# Altium footprint library Diode.PcbLib: 29 footprints (part 2 of 2)
Each footprint in its own frame and in the unit in brackets; x right, y up, seen from the top. Pads: shape width x height; smd on the part's side, far side on the other; paste and mask are expansions set on the pad; w line width, h text height; cw(c..) or ccw(c..) is an arc to the next point about the centre after c.
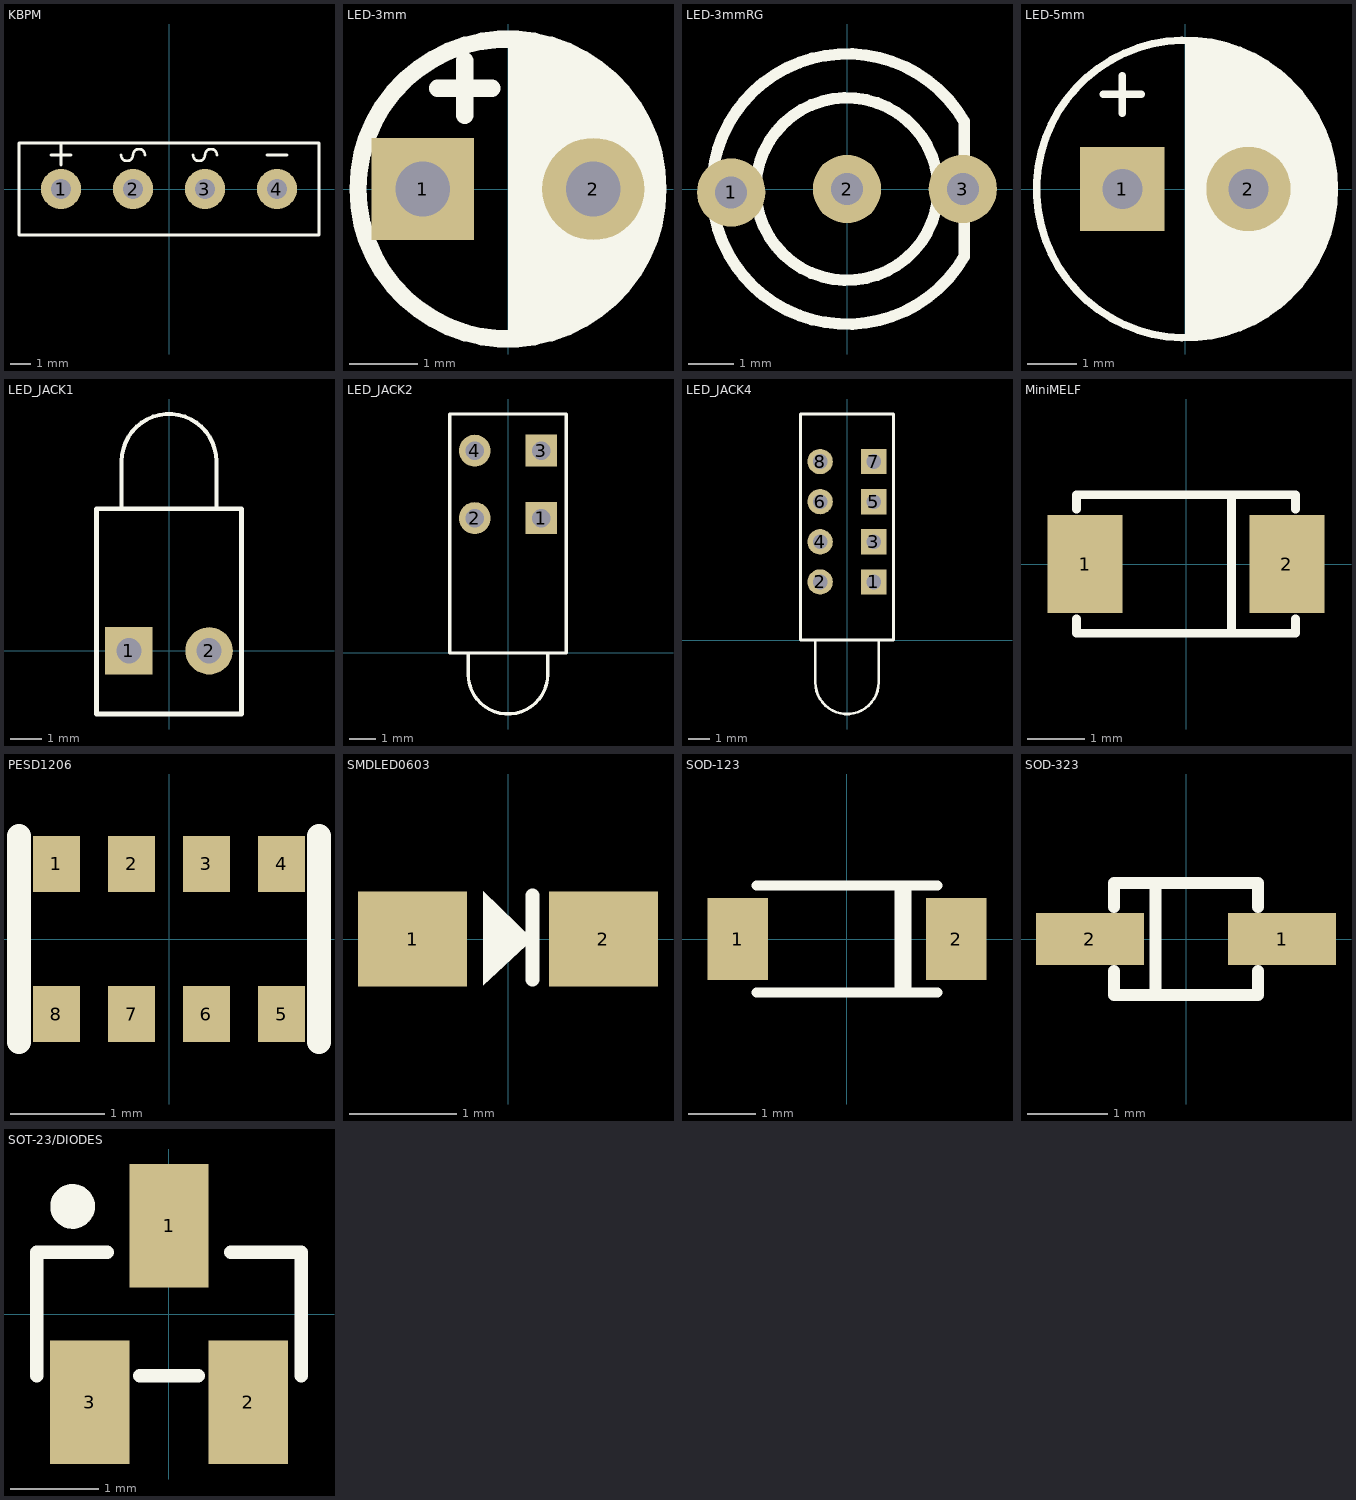
[diagram p1: the footprints below, top view; thin cyan lines are the x and y axes]

## KBPM [mm]
pads (4):
  round 2 hole 1: 1(-5.4,0) 2(-1.8,0) 3(1.8,0) 4(5.4,0)
Top Overlay:
  lines w0.127: -5.9,1.7 -4.9,1.7 ; -5.4,1.2 -5.4,2.2 ; -2.4,1.7 ccw(c-2.1,1.7) -1.8,1.7 cw(c-1.5,1.7) -1.2,1.7 ; 1.2,1.7 ccw(c1.5,1.7) 1.8,1.7 cw(c2.1,1.7) 2.4,1.7 ; 4.9,1.7 5.9,1.7 ; -7.5,-2.3 -7.5,2.3 7.5,2.3 7.5,-2.3 -7.5,-2.3

## LED-3mm [mm] "Dia 3mm"
height 6
pads (2):
  rect 1.5x1.5 hole 0.8: 1(-1.25,0)
  round 1.5 hole 0.8: 2(1.25,0)
Top Overlay:
  circle w0.254: c0,0 r2.2
  region: 0,2.184 0,-2.159 0.66,-2.159 0.838,-2.108 1.067,-2.007 1.702,-1.372 1.727,-1.372 1.753,-1.321 2.134,-0.889 2.2,0 2.108,0.914 1.143,1.88 0.889,2.007 0.66,2.057
  lines w0.254: -1.035,1.48 -0.235,1.48 ; -0.635,1.08 -0.635,1.88

## LED-3mmRG [mm] "double coloure led"
height 5
pads (3):
  round 1.5 hole 0.7: 1(-2.54,-0.076) 2(0,0) 3(2.54,0)
Top Overlay:
  circle w0.254: c0,0 r2
  lines w0.254: 2.568,-1.483 cw(c0,0) 2.568,1.483 2.568,-1.482

## LED-5mm [mm] "Dia 5mm"
height 9
pads (2):
  rect 1.7x1.7 hole 0.8: 1(-1.27,0)
  round 1.7 hole 0.8: 2(1.27,0)
Top Overlay:
  circle w0.152: c0,0 r3
  region: 0,3.023 0,-3.023 0.889,-2.87 1.321,-2.667 1.778,-2.388 2.286,-1.88 2.489,-1.626 2.667,-1.346 2.921,-0.584 3.023,0.406 2.515,1.575 1.956,2.286 1.041,2.794 0.559,2.946
  lines w0.152: -1.651,1.905 -0.889,1.905 ; -1.27,1.524 -1.27,2.286

## LED_JACK1 [mm] "LED JACK"
height 7.5
pads (2):
  rect 1.5x1.5 hole 0.8: 1(-1.27,0)
  round 1.5 hole 0.8: 2(1.27,0)
Top Overlay:
  lines w0.127: -1.5,4.501 -1.5,6 cw(c0,6) 1.5,6 1.5,4.501
  lines w0.152: -2.3,-2 2.3,-2 2.3,4.5 -2.3,4.5 -2.3,-2

## LED_JACK2 [mm] "TWO LEDS VERTICAL"
height 10
pads (4):
  rect 1.2x1.2 hole 0.7: 1(1.25,5.08) 3(1.25,7.62)
  round 1.2 hole 0.7: 2(-1.25,5.08) 4(-1.25,7.62)
Top Overlay:
  lines w0.127: -1.5,-0.052 -1.5,-0.8 ccw(c0,-0.8) 1.5,-0.8 1.5,-0.024 ; -2.2,0 -2.2,9 2.2,9 2.2,0 -2.2,0

## LED_JACK4 [mm] "塑料壳LED4*1"
height 20.3
pads (8):
  rect 1.2x1.2 hole 0.7: 1(1.27,2.75) 3(1.27,4.65) 5(1.27,6.55) 7(1.27,8.45)
  round 1.2 hole 0.7: 2(-1.27,2.75) 4(-1.27,4.65) 6(-1.27,6.55) 8(-1.27,8.45)
Top Overlay:
  lines w0.127: -1.5,0 -1.5,-2 ccw(c0,-2) 1.5,-2 1.5,0 ; -2.2,0 -2.2,10.7 2.2,10.7 2.2,0 -2.2,0

## MiniMELF [mm]
height 1.6
pads (2):
  rect 1.3x1.7 smd: 1(-1.75,0) 2(1.75,0)
Top Overlay:
  lines w0.152: -1.9,-0.95 -1.9,-1.2 1.9,-1.2 1.9,-0.95 ; -1.9,0.95 -1.9,1.2 1.9,1.2 1.9,0.95 ; 0.787,-1.2 0.787,1.2

## PESD1206 [mm]
height 0.6
pads (8):
  rect 0.5x0.6 smd: 1(-1.2,0.8) 2(-0.4,0.8) 3(0.4,0.8) 4(1.2,0.8) 5(1.2,-0.8) 6(0.4,-0.8) 7(-0.4,-0.8) 8(-1.2,-0.8)
Top Overlay:
  lines w0.254: -1.6,-1.1 -1.6,1.1 ; 1.6,-1.1 1.6,1.1

## SMDLED0603 [mil]
pads (2):
  rect 40x35 smd: 1(-35,0) 2(35,0)
Top Overlay:
  region: -9,17.5 -9,-17 9,0
  lines w5: 9,-15 9,16

## SOD-123 [mm] "FOR ONSEMI"
height 1.168
pads (2):
  rect 0.91x1.22 smd: 1(-1.635,0) 2(1.635,0)
Top Overlay:
  lines w0.152: -1.35,-0.8 1.35,-0.8 ; -1.35,0.8 1.35,0.8
  lines w0.254: 0.838,-0.737 0.838,0.737

## SOD-323 [mm] "FOR DIODES"
pads (2):
  rect 1.35x0.65 smd: 1(1.2,0) 2(-1.2,0)
Top Overlay:
  lines w0.152: -0.9,-0.4 -0.9,-0.7 0.9,-0.7 0.9,-0.4 ; -0.9,0.4 -0.9,0.7 0.9,0.7 0.9,0.4 ; -0.381,-0.7 -0.381,0.7

## SOT-23/DIODES [mm] "FOR DIODES"
pads (3):
  rect 0.9x1.4 smd: 1(0,1) 2(0.9,-1) 3(-0.9,-1)
Top Overlay:
  circle w0.254: c-1.092,1.219 r0.127
  lines w0.152: -1.5,-0.7 -1.5,0.7 -0.7,0.7 ; -0.33,-0.7 0.33,-0.7 ; 0.7,0.7 1.5,0.7 1.5,-0.7